# EAGLE library part PINHD-2X11_MEB12S (library pinhead_own)
PIN HEADER
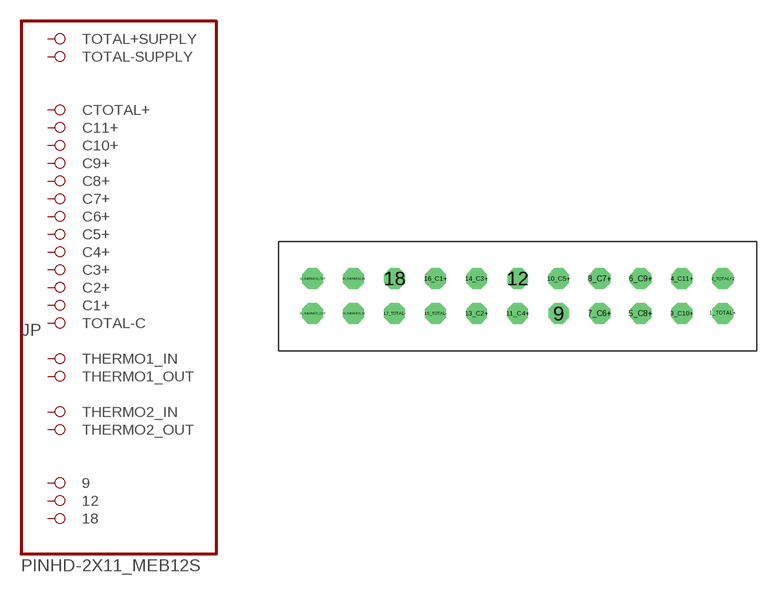
[diagram p45: symbol with the pads of 2X11_MEB12S; footprint 2X11_MEB12S]

Designator prefix JP

## PINHD-2X11_MEB12S  [2X11_MEB12S]
1_TOTAL+  TOTAL+SUPPLY  pas
2_TOTAL+2  CTOTAL+  pas
3_C10+  C10+  pas
4_C11+  C11+  pas
5_C8+  C8+  pas
6_C9+  C9+  pas
7_C6+  C6+  pas
8_C7+  C7+  pas
9  9  pas
10_C5+  C5+  pas
11_C4+  C4+  pas
12  12  pas
13_C2+  C2+  pas
14_C3+  C3+  pas
15_TOTAL-  TOTAL-C  pas
16_C1+  C1+  pas
17_TOTAL-  TOTAL-SUPPLY  pas
18  18  pas
19_THERMO1_IN  THERMO1_IN  pas
20_THERMO2_IN  THERMO2_IN  pas
21_THERMO1_OUT  THERMO1_OUT  pas
22_THERMO2_OUT  THERMO2_OUT  pas

## Footprint 2X11_MEB12S (pad centres in mm)
PIN HEADER
drill 1.016 octagon: 1_TOTAL+ 15,-1.27; 2_TOTAL+2 15,1.27; 3_C10+ 12,-1.27; 4_C11+ 12,1.27; 5_C8+ 9,-1.27; 6_C9+ 9,1.27; 7_C6+ 6,-1.27; 8_C7+ 6,1.27; 9 3,-1.27; 10_C5+ 3,1.27; 11_C4+ 0,-1.27; 12 0,1.27; 13_C2+ -3,-1.27; 14_C3+ -3,1.27; 15_TOTAL- -6,-1.27; 16_C1+ -6,1.27; 17_TOTAL- -9,-1.27; 18 -9,1.27; 19_THERMO1_IN -12,-1.27; 20_THERMO2_IN -12,1.27; 21_THERMO1_OUT -15,-1.27; 22_THERMO2_OUT -15,1.27